# EAGLE library part SI8710AD-B-ISR (library IC)
DGTL ISO 5KV 1CH GEN PURP 6DIPGW Manufacturer's datasheet <https://media.digikey.com/pdf/Data%20Sheets/Silicon%20Laboratories%20PDFs/Si87xx.pdf>
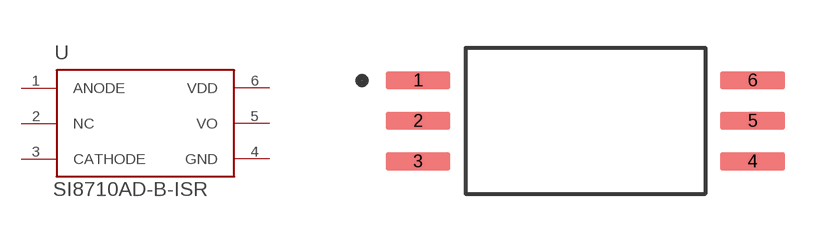
[diagram p28: symbol with the pads of 6-SOIC; footprint 6-SOIC]

Designator prefix U

## SI8710AD-B-ISR (CREATED_BY: PCBLayout.com; DIGIKEY_PN: 336-4211-2-ND; MANUFACTURER: Silicon Labs; MPN: SI8710AD-B-ISR; PACKAGE: 6-SOIC)  [6-SOIC]
1  ANODE  in
2  NC  pas
3  CATHODE  in
4  GND  pwr
5  VO  out
6  VDD  pwr

## Footprint 6-SOIC (pad centres in mm)
smd 2.025 x 0.575: 1 -5.237,1.27; 2 -5.237,0; 3 -5.237,-1.27; 4 5.237,-1.27; 5 5.237,0; 6 5.237,1.27